# Altium schematic symbol library Lib_lhy - 副本.SchLib: 33 symbols
Pins are listed as number, name and electrical type; pins without a type are passive.

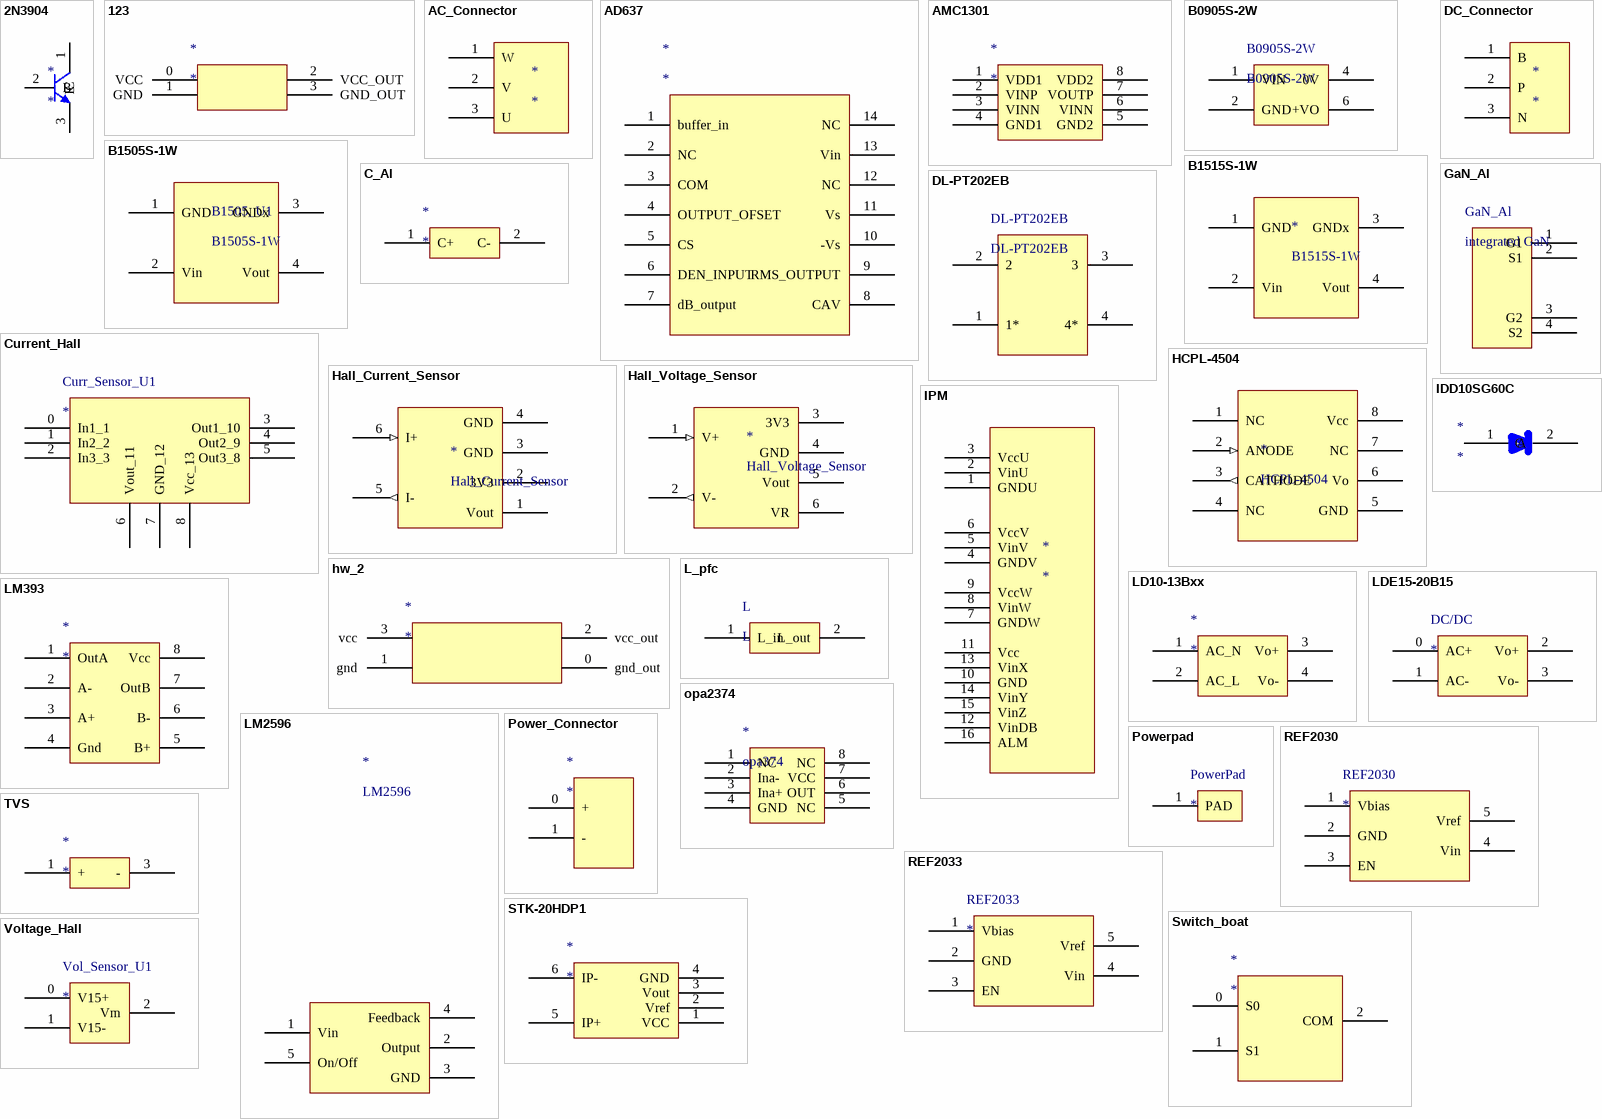
[diagram p0: symbols 2N3904 to Voltage_Hall]

## 2N3904
designator *
footprint TO-92
pins: 1 C, 2 B, 3 E

## 123
designator *
footprint 123
pins: 0 VCC, 1 GND, 2 VCC_OUT, 3 GND_OUT

## AC_Connector
designator *
footprint DG636_3PIN
pins: 1 W, 2 V, 3 U

## AD637
designator *
pins: 1 buffer_in, 2 NC, 3 COM, 4 OUTPUT_OFSET, 5 CS, 6 DEN_INPUT, 7 dB_output, 8 CAV, 9 RMS_OUTPUT, 10 -Vs, 11 Vs, 12 NC, 13 Vin, 14 NC

## AMC1301
designator *
footprint AMC1201
pins: 1 VDD1, 2 VINP, 3 VINN, 4 GND1, 5 GND2, 6 VINN, 7 VOUTP, 8 VDD2

## B0905S-2W
designator B0905S-2W
footprint B0905S-2W
pins: 1 VIN, 2 GND, 4 0V, 6 +VO

## B1505S-1W
designator B1505_U1
footprint B1515S-1W
pins: 1 GND, 2 Vin, 3 GNDx, 4 Vout

## B1515S-1W
designator *
footprint B1515S-1W
pins: 1 GND, 2 Vin, 3 GNDx, 4 Vout

## C_Al
designator *
footprint C_Al
pins: 1 C+, 2 C-

## Current_Hall
designator Curr_Sensor_U1
pins: 0 In1_1, 1 In2_2, 2 In3_3, 3 Out1_10, 4 Out2_9, 5 Out3_8, 6 Vout_11, 7 GND_12, 8 Vcc_13

## DC_Connector
designator *
footprint DG636_3PIN
pins: 1 B, 2 P, 3 N

## DL-PT202EB
designator DL-PT202EB
footprint DL-PT202EB
pins: 1 1*, 2, 3, 4 4*

## GaN_Al
designator GaN_Al, comment integrated GaN
footprint GaN_driver
pins: 1 G1, 2 S1, 3 G2, 4 S2

## Hall_Current_Sensor
designator *
footprint Current_Hall
pins: 1 Vout, 2 3V3, 3 GND, 4 GND, 5 I- (out), 6 I+ (in)

## Hall_Voltage_Sensor
designator *
footprint VOLTAGE_HALL
pins: 1 V+ (in), 2 V- (out), 3 3V3, 4 GND, 5 Vout, 6 VR

## HCPL-4504
designator *
footprint DIP8
pins: 1 NC, 2 ANODE (in), 3 CATHODE (out), 4 NC, 5 GND, 6 Vo, 7 NC, 8 Vcc

## hw_2
designator *
footprint B1515S-1W
pins: 0 gnd_out, 1 gnd, 2 vcc_out, 3 vcc (power)

## IDD10SG60C
designator *
footprint IDD10SG60C; pin to pad 1>2 2>3
pins: 1 A, 2 C

## IPM
designator *
footprint IPM
pins: 1 GNDU, 2 VinU, 3 VccU, 4 GNDV, 5 VinV, 6 VccV, 7 GNDW, 8 VinW, 9 VccW, 10 GND, 11 Vcc, 12 VinDB, 13 VinX, 14 VinY, 15 VinZ, 16 ALM

## L_pfc
designator L, comment L
pins: 1 L_in, 2 L_out

## LD10-13Bxx
designator *
footprint LD10-13
pins: 1 AC_N, 2 AC_L, 3 Vo+, 4 Vo-

## LDE15-20B15
designator DC/DC
pins: 0 AC+, 1 AC-, 2 Vo+, 3 Vo-

## LM393
designator *
pins: 1 OutA, 2 A-, 3 A+, 4 Gnd, 5 B+, 6 B-, 7 OutB, 8 Vcc

## LM2596
designator *
footprint TO220V-5L
pins: 1 Vin, 2 Output, 3 GND, 4 Feedback, 5 On/Off

## opa2374
designator *, comment opa374
footprint OPA2374
pins: 1 NC, 2 Ina-, 3 Ina+, 4 GND, 5 NC, 6 OUT, 7 VCC, 8 NC

## Power_Connector
designator *
pins: 0 +, 1 -

## Powerpad
designator PowerPad
footprint powerpad
pins: 1 PAD

## REF2030
designator REF2030
pins: 1 Vbias, 2 GND, 3 EN, 4 Vin, 5 Vref

## REF2033
designator REF2033
pins: 1 Vbias, 2 GND, 3 EN, 4 Vin, 5 Vref

## STK-20HDP1
designator *
footprint STK-20HDP1
pins: 1 VCC, 2 Vref, 3 Vout, 4 GND, 5 IP+, 6 IP-

## Switch_boat
designator *
pins: 0 S0, 1 S1, 2 COM

## TVS
designator *
footprint SMB
pins: 1 +, 3 -

## Voltage_Hall
designator Vol_Sensor_U1
pins: 0 V15+, 1 V15-, 2 Vm